# Altium footprint library PcbLib1.PcbLib: 20 footprints (part 2 of 2)
Each footprint in its own frame and in the unit in brackets; x right, y up, seen from the top. Pads: shape width x height; smd on the part's side, far side on the other; paste and mask are expansions set on the pad; w line width, h text height; cw(c..) or ccw(c..) is an arc to the next point about the centre after c.
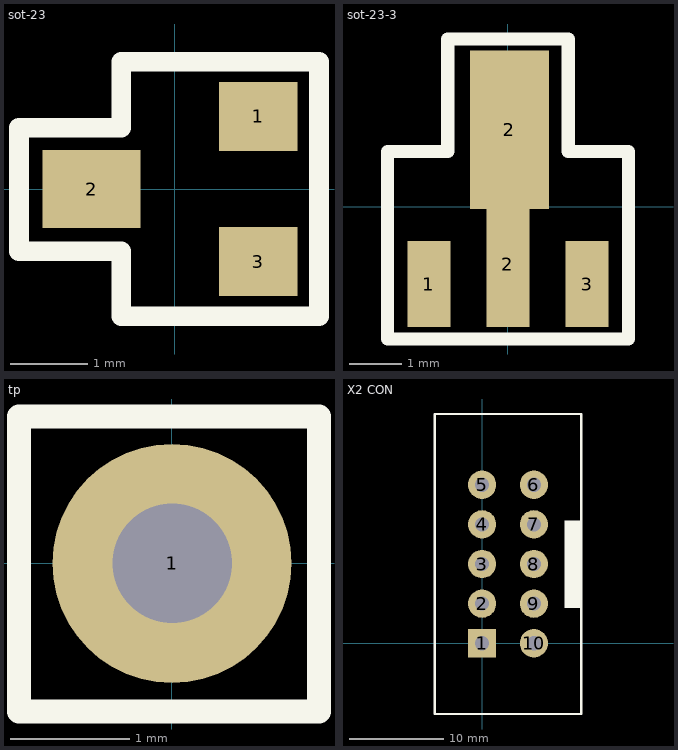
[diagram p1: the footprints below, top view; thin cyan lines are the x and y axes]

## sot-23 [mil]
pads (3):
  rect 40x35 smd paste+0 mask+4: 1(42.5,37.01) 3(42.5,-37.01)
  rect 50x40 smd paste+0 mask+4: 2(-42.5,0)
Top Overlay:
  lines w10: -27.5,33.98 -27.5,65 73.48,65 73.48,-65 -7.5,-65 ; -27.5,57.01 -27.5,31.3 -79.59,31.3 -79.59,-31.69 -27.5,-31.69 -27.5,-65 16.52,-65

## sot-23-3 [mm]
pads (4):
  rect 0.813x1.626 smd paste+0 mask+0.101: 1(-1.499,-1.464) 3(1.499,-1.464)
  rect 0.813x2.388 smd paste+0 mask+0.101: 2(0,-1.083)
  rect 1.5x3 smd: 2(0.025,1.464)
Top Overlay:
  lines w0.254: -2.286,-0.702 -2.286,-2.505 2.286,-2.505 2.286,1.051 1.676,1.051 1.143,1.051 1.143,3.185 -1.143,3.185 -1.143,1.051 -2.286,1.051 -2.286,-0.676

## tp [mm]
pads (1):
  round 2 hole 1 unplated: 1(0.004,0)
Top Overlay:
  lines w0.2: -1.276,1.209 -1.276,-1.24 1.233,-1.24 1.233,1.229 -1.276,1.229

## X2 CON [mm]
pads (10):
  rect 3x3 hole 1.5: 1(0,0)
  round 3 hole 1.5: 2(0,4.2) 3(0,8.4) 4(0,12.6) 5(0,16.8) 6(5.5,16.8) 7(5.5,12.6) 8(5.5,8.4) 9(5.5,4.2) 10(5.5,0)
Top Overlay:
  rectangle: 8.75,3.75 10.5,13
  lines w0.25: -5,-7.5 10.5,-7.5 10.5,24.3 -5,24.3 -5,-7.5